# Altium schematic symbol library MCP4726XXX-X-CH.SchLib: 1 symbol
Pins are listed as number, name and electrical type; pins without a type are passive.

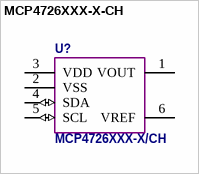
[diagram p0: symbol MCP4726XXX-X-CH]

## MCP4726XXX-X-CH
designator U?, comment MCP4726XXX-X/CH
pins: 1 VOUT, 2 VSS (power), 3 VDD (power), 4 SDA (io), 5 SCL (io), 6 VREF